# EAGLE library part JST6 (library we-con)
JST Connector
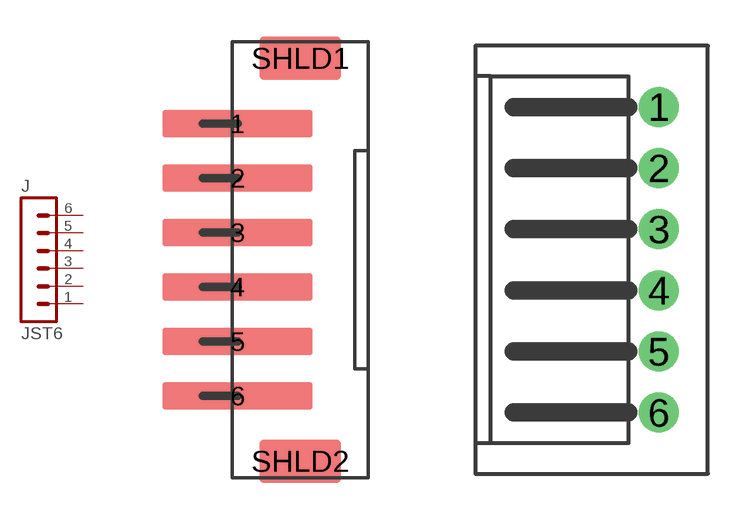
[diagram p33: symbol with the pads of JST_B6B-PH-SM4-TB; footprints JST_B6B-PH-SM4-TB, JST_S6B-PH-K]

Designator prefix J

## JST6-B6B-PH-SM4-TB  [JST_B6B-PH-SM4-TB]
1  1  pas
2  2  pas
3  3  pas
4  4  pas
5  5  pas
6  6  pas

## JST6-S6B-PH-K  [JST_S6B-PH-K]
Pads as for JST_B6B-PH-SM4-TB

## JST6-B6B-PH-K  [JST_B6B-PH-K]
Pads as for JST_B6B-PH-SM4-TB

## JST6-S6B-PH-SM4-TB  [JST_S6B-PH-SM4-TB]
Pads as for JST_B6B-PH-SM4-TB

## Footprint JST_B6B-PH-SM4-TB (pad centres in mm)
Top Entry
smd 5.5 x 1: 1 -2.9,5; 2 -2.9,3; 3 -2.9,1; 4 -2.9,-1; 5 -2.9,-3; 6 -2.9,-5
smd 3 x 1.6: SHLD1 -0.6,7.4; SHLD2 -0.6,-7.4

## Footprint JST_S6B-PH-K (pad centres in mm)
Side Entry -K - normal insertion force / -KL - low insertion force
drill 0.8 pad 1.3: 1 0,5; 2 0,3; 3 0,1; 4 0,-1; 5 0,-3; 6 0,-5

## Footprint JST_B6B-PH-K (pad centres in mm)
Top Entry -K - normal insertion force / -KL - low insertion force
drill 0.8 pad 1.3: 1 0,5; 2 0,3; 3 0,1; 4 0,-0.96; 5 0,-2.96; 6 0,-4.96

## Footprint JST_S6B-PH-SM4-TB (pad centres in mm)
Side Entry
smd 3.5 x 1: 1 1,5; 2 1,3; 3 1,1; 4 1,-1; 5 1,-3; 6 1,-5
smd 3.4 x 1.5: SHLD1 -4.5,7.4; SHLD2 -4.5,-7.4